# EAGLE library part BD60HC5WEFJ (library micromouse_board_revB_V0.0.6)
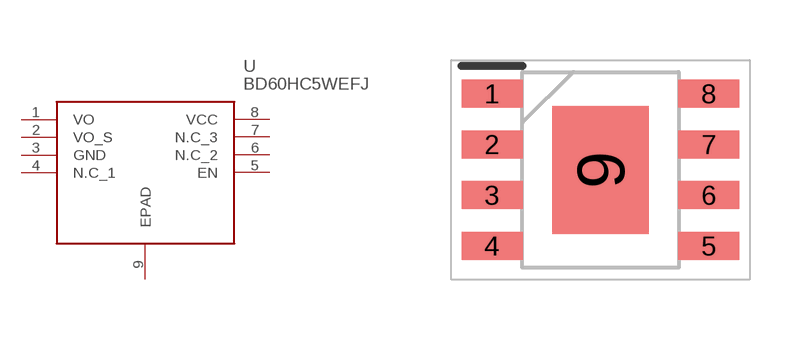
[diagram p0: symbol with the pads of SOIC127P600X100-9N; footprint SOIC127P600X100-9N]

Designator prefix -

## BD60HC5WEFJ  [SOIC127P600X100-9N]
1  VO
2  VO_S
3  GND
4  N.C_1
5  EN
6  N.C_2
7  N.C_3
8  VCC
9  EPAD

## Footprint SOIC127P600X100-9N (pad centres in mm)
HTSOP-J8-2
smd 1.525 x 0.7: 1 -2.712,1.905; 2 -2.712,0.635; 3 -2.712,-0.635; 4 -2.712,-1.905; 5 2.712,-1.905; 6 2.712,-0.635; 7 2.712,0.635; 8 2.712,1.905
smd 2.4 x 3.2: 9 0,0